# Altium schematic symbol library LED-RG.SchLib: 1 symbol
Pins are listed as number, name and electrical type; pins without a type are passive.

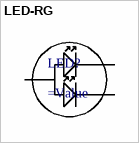
[diagram p0: symbol LED-RG]

## LED-RG
designator LED?
=Description
pins: 1 R, 2 A, 3 G